# Altium footprint library SEN0570-DIP.PcbLib: 2 footprints
Each footprint in its own frame and in the unit in brackets; x right, y up, seen from the top. Pads: shape width x height; smd on the part's side, far side on the other; paste and mask are expansions set on the pad; w line width, h text height; cw(c..) or ccw(c..) is an arc to the next point about the centre after c.
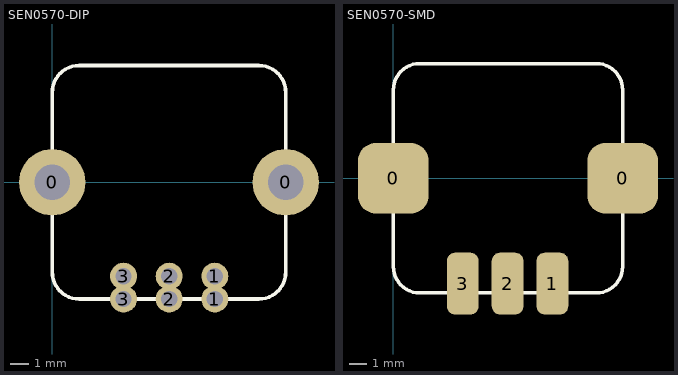
[diagram p0: the footprints below, top view; thin cyan lines are the x and y axes]

## SEN0570-DIP [mm]
pads (8):
  round 3.7 hole 2 paste-111: 0(0,0) 0(13,0)
  round 1.5 hole 0.9: 1(9.05,-6.5) 1(9.05,-5.23) 2(6.51,-6.5) 2(6.51,-5.23) 3(3.97,-6.5) 3(3.97,-5.23)
Top Overlay:
  lines w0.2: 0,-5 ccw(c1.5,-5) 1.5,-6.5 11.5,-6.5 ccw(c11.5,-5) 13,-5 13,5 ccw(c11.5,5) 11.5,6.5 1.5,6.5 ccw(c1.5,5) 0,5 0,-5

## SEN0570-SMD [mm]
pads (5):
  rrect50% 4x4 smd: 0(0,0) 0(13,0)
  rrect50% 1.8x3.5 smd: 1(9.017,-5.969) 2(6.477,-5.969) 3(3.937,-5.969)
Top Overlay:
  lines w0.2: 0,-5 ccw(c1.5,-5) 1.5,-6.5 11.5,-6.5 ccw(c11.5,-5) 13,-5 13,5 ccw(c11.5,5) 11.5,6.5 1.5,6.5 ccw(c1.5,5) 0,5 0,-5